# Altium integrated library Infineon RF & Wireless Control.IntLib: 329 symbols (part 4 of 11)
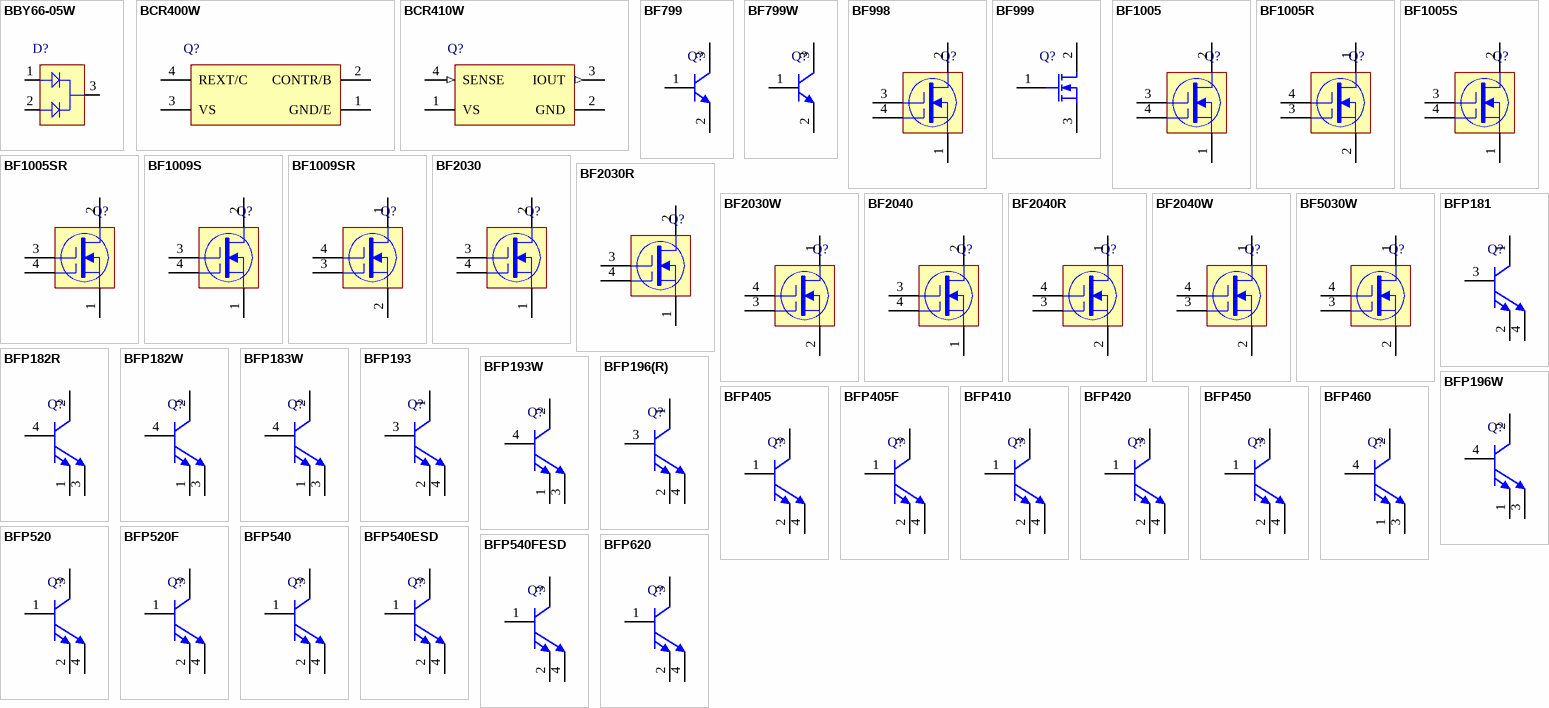
[diagram p12: symbols BBY66-05W to BFP620]

## BCR400W
designator Q?
Active Bias Controller, SOT343, Green; Manufacturer: Infineon; PartNumber: BCR400W; Green: yes; ID: 10 mA; Ptot (max): 330 mW; Vdrop (typ): 0.65 V; VS (max): 18 V; VS (min): 1.8 V; DatasheetVersion: ########; PackageReference: SOT343; PackageDescription: 4-Pin Small Outline Transistor Package, 1.25 x 2 mm Body; Halogen-free: yes; Mounting Technology: Surface Mount; ComponentLink1Description: Manufacturer URL; ComponentLink1URL: http://www.infineon.com/; ComponentLink2Description: Datasheet; ComponentLink2URL: http://www.infineon.com/dgdl/bcr400w.pdf?folderId=db3a30431400ef68011407aa42770183&fileId=db3a30431400ef68011407e93d8601a1&location=en.Products.RF.RF_Transistors_.Active_Bias_Controllers_for_RF_Transistors.DATASHEET.bcr400w.pdf; ComponentLink3Description: Package Specification; ComponentLink3URL: http://www.infineon.com/dgdl/SOT343-Package_Overview.pdf?folderId=db3a30431936bc4b0119535155343cba&fileId=db3a30431936bc4b0119535a9f393cd3
footprint INF-SOT343_V (SOT343, 4-Leads, Body 2x1.25 mm)
pins: 1 GND/E (power), 2 CONTR/B, 3 VS (power), 4 REXT/C

## BCR410W
designator Q?
Active Bias Controller, SOT343, Green; Manufacturer: Infineon; PartNumber: BCR410W; Green: yes; ID: 0.5 mA; Ptot (max): 100 mW; Vdrop (typ): 0.11 V; VS (max): 18 V; VS (min): 1.8 V; DatasheetVersion: ########; PackageReference: SOT343; PackageDescription: 4-Pin Small Outline Transistor Package, 1.25 x 2 mm Body; Supplier 1: Mouser; Supplier Part Number 1: N/A; Halogen-free: yes; Mounting Technology: Surface Mount; ComponentLink1Description: Manufacturer URL; ComponentLink1URL: http://www.infineon.com/; ComponentLink2Description: Datasheet; ComponentLink2URL: http://www.infineon.com/dgdl/bcr410w.pdf?folderId=db3a30431400ef68011407aa42770183&fileId=db3a30431400ef68011407f7356301a5&location=en.Products.RF.RF_Transistors_.Active_Bias_Controllers_for_RF_Transistors.DATASHEET.bcr410w.pdf; ComponentLink3Description: Package Specification; ComponentLink3URL: http://www.infineon.com/dgdl/SOT343-Package_Overview.pdf?folderId=db3a30431936bc4b0119535155343cba&fileId=db3a30431936bc4b0119535a9f393cd3
footprint INF-SOT343_V (SOT343, 4-Leads, Body 2x1.25 mm)
pins: 1 VS (power), 2 GND (power), 3 IOUT (out), 4 SENSE (in)

## BF799
designator Q?
NPN Silicon RF Transistor, 20 V VCEO, 35 mA IC, SOT23, Green; Manufacturer: Infineon; PartNumber: BF799; Green: yes; Group: For low frequencies, e.g. VHF/UHF; IC (max): 35 mA; NFmin (typ): 3 dB; Ptot (max): 280 mW; VCEO (max): 20 V; DatasheetVersion: Sep-2011; PackageReference: SOT23; PackageDescription: 3-Pin Small Outline Transistor Package, 1.3 x 2.9 mm Body, 0.95 mm Pitch; Supplier 1: Mouser; Supplier Part Number 1: N/A; Mounting Technology: Surface Mount; ComponentLink1Description: Manufacturer URL; ComponentLink1URL: http://www.infineon.com/; ComponentLink2Description: Datasheet; ComponentLink2URL: http://www.infineon.com/dgdl/bf799.pdf?folderId=db3a30431400ef68011425b1354605c1&fileId=db3a30431400ef68011425e83da705d9&location=en.Products.RF.RF_Transistors_.High_Linearity_Si-_and_SiGe_C-Transistors_for_use_up_to_6_GHz.DATASHEET.bf799.pdf; ComponentLink3Description: Package Specification; ComponentLink3URL: http://www.infineon.com/dgdl/SOT23-Package_Overview.pdf?folderId=db3a30431936bc4b0119532290053c66&fileId=db3a30431936bc4b0119533468123c85
footprint INF-SOT23_N (SOT23, 3-Leads, Body 2.9x1.3 mm, Pitch 0.95 mm, IPC Medium Density)
footprint INF-SOT23_L (SOT23, 3-Leads, Body 2.9x1.3 mm, Pitch 0.95 mm, IPC High Density)
footprint INF-SOT23_M (SOT23, 3-Leads, Body 2.9x1.3 mm, Pitch 0.95 mm, IPC Low Density)
pins: 1 B, 2 E, 3 C

## BF799W
designator Q?
NPN Silicon RF Transistor, 20 V VCEO, 35 mA IC, SOT323, Green; Manufacturer: Infineon; PartNumber: BF799W; Green: yes; Group: For low frequencies, e.g. VHF/UHF; IC (max): 35 mA; NFmin (typ): 3 dB; Ptot (max): 280mW; VCEO (max): 20 V; DatasheetVersion: Sep-2011; PackageReference: SOT323; PackageDescription: 3-Pin Small Outline Transistor Package, 1.25 x 2 mm Body, 0.65 mm Pitch; Supplier 1: Mouser; Supplier Part Number 1: N/A; Halogen-free: yes; Mounting Technology: Surface Mount; ComponentLink1Description: Manufacturer URL; ComponentLink1URL: http://www.infineon.com/; ComponentLink2Description: Datasheet; ComponentLink2URL: http://www.infineon.com/dgdl/bf799w.pdf?folderId=db3a30431400ef68011425b1354605c1&fileId=db3a30431400ef68011425ebb43905de&location=en.Products.RF.RF_Transistors_.High_Linearity_Si-_and_SiGe_C-Transistors_for_use_up_to_6_GHz.DATASHEET.bf799w.pdf; ComponentLink3Description: Package Specification; ComponentLink3URL: http://www.infineon.com/dgdl/SOT323-Package_Overview.pdf?folderId=db3a30431936bc4b0119533e1dcb3c92&fileId=db3a30431936bc4b011953495f283cb1
footprint INF-SOT323_N (SOT23, 3-Leads, Body 2x1.25 mm, Pitch 0.65 mm, IPC Medium Density)
footprint INF-SOT323_L (SOT23, 3-Leads, Body 2x1.25 mm, Pitch 0.65 mm, IPC High Density)
footprint INF-SOT323_M (SOT23, 3-Leads, Body 2x1.25 mm, Pitch 0.65 mm, IPC Low Density)
pins: 1 B, 2 E, 3 C

## BF998
designator Q?
Silicon N-Channel MOSFET Tetrode, 30 mA ID, 20 dB Gp, SOT143-4-1, Green; Manufacturer: Infineon; PartNumber: BF998; F (typ): 1.8 dB; gfs (typ): 24 mS; Gp (typ): 20 dB; Green: yes; ID (max): 30 mA; Ptot (max): 200 mW; DatasheetVersion: Apr-2007; PackageReference: SOT143-4-1; PackageDescription: 4-Pin Small Outline Transistor Package, 1.3 x 2.9 mm Body; Mounting Technology: Surface Mount; ComponentLink1Description: Manufacturer URL; ComponentLink1URL: http://www.infineon.com/; ComponentLink2Description: Datasheet; ComponentLink2URL: http://www.infineon.com/dgdl/bf998series.pdf?folderId=db3a30431441fb5d0114936599851041&fileId=db3a30431441fb5d011493688fd31042&location=en.Products.RF.RF_MOSFET.Single_Non_Biased.DATASHEET.bf998series.pdf; ComponentLink3Description: Package Specification; ComponentLink3URL: http://www.infineon.com/dgdl/SOT143-Package_Overview.pdf?folderId=db3a30431936bc4b011952ce8b1b3bed&fileId=db3a30431936bc4b011952df42203c0c
footprint INF-SOT143-4-1_V (SOT143, 4-Leads, Body 2.9x1.3 mm)
pins: 1 S, 2 D, 3 G2, 4 G1

## BF999
designator Q?
Silicon N-Channel MOSFET Triode, 30 mA ID, 25 dB Gp, SOT23, Green; Manufacturer: Infineon; PartNumber: BF999; F (typ): 1 dB; gfs (typ): 16 mS; Gp (typ): 25 dB; Green: yes; ID (max): 30 mA; Ptot (max): 200 mW; DatasheetVersion: Apr-2007; PackageReference: SOT23; PackageDescription: 3-Pin Small Outline Transistor Package, 1.3 x 2.9 mm Body, 0.95 mm Pitch; Supplier 1: Mouser; Supplier Part Number 1: N/A; Mounting Technology: Surface Mount; ComponentLink1Description: Manufacturer URL; ComponentLink1URL: http://www.infineon.com/; ComponentLink2Description: Datasheet; ComponentLink2URL: http://www.infineon.com/dgdl/bf999.pdf?folderId=db3a30431441fb5d0114936599851041&fileId=db3a30431441fb5d0114936ed6171043&location=en.Products.RF.RF_MOSFET.Single_Non_Biased.DATASHEET.bf999.pdf; ComponentLink3Description: Package Specification; ComponentLink3URL: http://www.infineon.com/dgdl/SOT23-Package_Overview.pdf?folderId=db3a30431936bc4b0119532290053c66&fileId=db3a30431936bc4b0119533468123c85
footprint INF-SOT23_N (SOT23, 3-Leads, Body 2.9x1.3 mm, Pitch 0.95 mm, IPC Medium Density)
footprint INF-SOT23_L (SOT23, 3-Leads, Body 2.9x1.3 mm, Pitch 0.95 mm, IPC High Density)
footprint INF-SOT23_M (SOT23, 3-Leads, Body 2.9x1.3 mm, Pitch 0.95 mm, IPC Low Density)
pins: 1 G, 2 D, 3 S

## BF1005
designator Q?
Silicon N-Channel MOSFET Tetrode, 25 mA ID, 19 dB Gp, SOT143, Green; Manufacturer: Infineon; PartNumber: BF1005; F (typ): 1.6 dB; gfs (typ): 24 mS; Gp (typ): 19 dB; Green: yes; ID (max): 25 mA; Ptot (max): 200 mW; DatasheetVersion: Apr-2007; PackageReference: SOT143-4-1; PackageDescription: 4-Pin Small Outline Transistor Package, 1.3 x 2.9 mm Body; Supplier 1: Mouser; Supplier Part Number 1: N/A; Mounting Technology: Surface Mount; ComponentLink1Description: Manufacturer URL; ComponentLink1URL: http://www.infineon.com/; ComponentLink2Description: Datasheet; ComponentLink2URL: http://www.infineon.com/dgdl/bf1005series.pdf?folderId=db3a304313b8b5a60113d40a85920405&fileId=db3a30431441fb5d011493122e46102c&location=en.Products.RF.RF_MOSFET.Single_Full_Biased.DATASHEET.bf1005series.pdf; ComponentLink3Description: Package Specification; ComponentLink3URL: http://www.infineon.com/dgdl/SOT143-Package_Overview.pdf?folderId=db3a30431936bc4b011952ce8b1b3bed&fileId=db3a30431936bc4b011952df42203c0c
footprint INF-SOT143-4-1_V (SOT143, 4-Leads, Body 2.9x1.3 mm)
pins: 1 S, 2 D, 3 G2, 4 G1

## BF1005R
designator Q?
Silicon N-Channel MOSFET Tetrode, 25 mA ID, 19 dB Gp, SOT143R, Green; Manufacturer: Infineon; PartNumber: BF1005R; F (typ): 1.6 dB; gfs (typ): 24 mS; Gp (typ): 19 dB; Green: yes; ID (max): 25 mA; Ptot (max): 200 mW; DatasheetVersion: Apr-2007; PackageReference: SOT143R; PackageDescription: 4-Pin Small Outline Transistor Package, 1.3 x 2.9 mm Body; Supplier 1: Mouser; Supplier Part Number 1: N/A; Mounting Technology: Surface Mount; ComponentLink1Description: Manufacturer URL; ComponentLink1URL: http://www.infineon.com/; ComponentLink2Description: Datasheet; ComponentLink2URL: http://www.infineon.com/dgdl/bf1005series.pdf?folderId=db3a304313b8b5a60113d40a85920405&fileId=db3a30431441fb5d011493122e46102c&location=en.Products.RF.RF_MOSFET.Single_Full_Biased.DATASHEET.bf1005series.pdf; ComponentLink3Description: Package Specification; ComponentLink3URL: http://www.infineon.com/dgdl/SOT143R-Package_Overview.pdf?folderId=db3a30431936bc4b011952e85fd43c15&fileId=db3a30431936bc4b011952f98add3c34
footprint INF-SOT143R_V (SOT143, 4-Leads, Body 2.9x1.3 mm)
pins: 1 D, 2 S, 3 G1, 4 G2

## BF1005S
designator Q?
Silicon N-Channel MOSFET Tetrode, 25 mA ID, 22 dB Gp, SOT143, Green; Manufacturer: Infineon; PartNumber: BF1005S; F (typ): 1.6 dB; gfs (typ): 30 mS; Gp (typ): 22 dB; Green: yes; ID (max): 25 mA; Ptot (max): 200 mW; DatasheetVersion: Apr-2007; PackageReference: SOT143-4-1; PackageDescription: 4-Pin Small Outline Transistor Package, 1.3 x 2.9 mm Body; Supplier 1: Mouser; Supplier Part Number 1: N/A; Mounting Technology: Surface Mount; ComponentLink1Description: Manufacturer URL; ComponentLink1URL: http://www.infineon.com/; ComponentLink2Description: Datasheet; ComponentLink2URL: http://www.infineon.com/dgdl/bf1005sseries.pdf?folderId=db3a304313b8b5a60113d40a85920405&fileId=db3a30431441fb5d01149313d067102d&location=en.Products.RF.RF_MOSFET.Single_Full_Biased.DATASHEET.bf1005sseries.pdf; ComponentLink3Description: Package Specification; ComponentLink3URL: http://www.infineon.com/dgdl/SOT143-Package_Overview.pdf?folderId=db3a30431936bc4b011952ce8b1b3bed&fileId=db3a30431936bc4b011952df42203c0c
footprint INF-SOT143-4-1_V (SOT143, 4-Leads, Body 2.9x1.3 mm)
pins: 1 S, 2 D, 3 G2, 4 G1

## BF1005SR
designator Q?
Silicon N-Channel MOSFET Tetrode, SOT143R, Green; Manufacturer: Infineon; PartNumber: BF1005SR; Green: TRUE; PackageReference: SOT143R; PackageDescription: 4-Pin Small Outline Transistor Package, 1.3 x 2.9 mm Body; Supplier 1: Mouser; Supplier Part Number 1: N/A; Halogen-free: FALSE; Mounting Technology: Surface Mount; ComponentLink1Description: Manufacturer URL; ComponentLink1URL: http://www.infineon.com/; ComponentLink2Description: Datasheet; ComponentLink2URL: http://www.infineon.com/dgdl/bf1005sseries.pdf?folderId=db3a304313b8b5a60113d40a85920405&fileId=db3a30431441fb5d01149313d067102d&location=en.Products.RF.RF_MOSFET.Single_Full_Biased.DATASHEET.bf1005sseries.pdf; ComponentLink3Description: Package Specification; ComponentLink3URL: http://www.infineon.com/dgdl/SOT143R-Package_Overview.pdf?folderId=db3a30431936bc4b011952e85fd43c15&fileId=db3a30431936bc4b011952f98add3c34
footprint INF-SOT143R_V (SOT143, 4-Leads, Body 2.9x1.3 mm)
pins: 1 D, 2 S, 3 G1, 4 G2

## BF1009S
designator Q?
Silicon N-Channel MOSFET Tetrode, 25 mA ID, 22 dB Gp, SOT143, Green; Manufacturer: Infineon; PartNumber: BF1009S; F (typ): 1.4 dB; gfs (typ): 30 mS; Gp (typ): 22 dB; Green: yes; ID (max): 25 mA; Ptot (max): 200 mW; DatasheetVersion: Apr-2007; PackageReference: SOT143-4-1; PackageDescription: 4-Pin Small Outline Transistor Package, 1.3 x 2.9 mm Body; Supplier 1: Mouser; Supplier Part Number 1: N/A; Mounting Technology: Surface Mount; ComponentLink1Description: Manufacturer URL; ComponentLink1URL: http://www.infineon.com/; ComponentLink2Description: Datasheet; ComponentLink2URL: http://www.infineon.com/dgdl/bf1009sseries.pdf?folderId=db3a304313b8b5a60113d40a85920405&fileId=db3a30431441fb5d011492f004f9102b&location=en.Products.RF.RF_MOSFET.Single_Full_Biased.DATASHEET.bf1009sseries.pdf; ComponentLink3Description: Package Specification; ComponentLink3URL: http://www.infineon.com/dgdl/SOT143-Package_Overview.pdf?folderId=db3a30431936bc4b011952ce8b1b3bed&fileId=db3a30431936bc4b011952df42203c0c
footprint INF-SOT143-4-1_V (SOT143, 4-Leads, Body 2.9x1.3 mm)
pins: 1 S, 2 D, 3 G2, 4 G1

## BF1009SR
designator Q?
Silicon N-Channel MOSFET Tetrode, 25 mA ID, 22 dB Gp, SOT143R, Green; Manufacturer: Infineon; PartNumber: BF1009SR; F (typ): 1.4 dB; gfs (typ): 30 mS; Gp (typ): 22 dB; Green: yes; ID (max): 25 mA; Ptot (max): 200 mW; DatasheetVersion: Apr-2007; PackageReference: SOT143R; PackageDescription: 4-Pin Small Outline Transistor Package, 1.3 x 2.9 mm Body; Supplier 1: Mouser; Supplier Part Number 1: N/A; Mounting Technology: Surface Mount; ComponentLink1Description: Manufacturer URL; ComponentLink1URL: http://www.infineon.com/; ComponentLink2Description: Datasheet; ComponentLink2URL: http://www.infineon.com/dgdl/bf1009sseries.pdf?folderId=db3a304313b8b5a60113d40a85920405&fileId=db3a30431441fb5d011492f004f9102b&location=en.Products.RF.RF_MOSFET.Single_Full_Biased.DATASHEET.bf1009sseries.pdf; ComponentLink3Description: Package Specification; ComponentLink3URL: http://www.infineon.com/dgdl/SOT143R-Package_Overview.pdf?folderId=db3a30431936bc4b011952e85fd43c15&fileId=db3a30431936bc4b011952f98add3c34
footprint INF-SOT143R_V (SOT143, 4-Leads, Body 2.9x1.3 mm)
pins: 1 D, 2 S, 3 G1, 4 G2

## BF2030
designator Q?
Silicon N-Channel MOSFET Tetrode, 40 mA ID, 23 dB Gp, SOT143-4-1, Green; Manufacturer: Infineon; PartNumber: BF2030; F (typ): 1.5 dB; gfs (typ): 31 mS; Gp (typ): 23 dB; Green: yes; ID (max): 40 mA; Ptot (max): 200 mW; DatasheetVersion: Apr-2007; PackageReference: SOT143-4-1; PackageDescription: 4-Pin Small Outline Transistor Package, 1.3 x 2.9 mm Body; Supplier 1: Mouser; Supplier Part Number 1: N/A; Mounting Technology: Surface Mount; ComponentLink1Description: Manufacturer URL; ComponentLink1URL: http://www.infineon.com/; ComponentLink2Description: Datasheet; ComponentLink2URL: http://www.infineon.com/dgdl/bf2030series.pdf?folderId=db3a30431441fb5d0114ab95022d1351&fileId=db3a30431441fb5d0114ab9599a61352&location=en.Products.RF.RF_MOSFET.Single_Semi_Biased.DATASHEET.bf2030series.pdf; ComponentLink3Description: Package Specification; ComponentLink3URL: http://www.infineon.com/dgdl/SOT143-Package_Overview.pdf?folderId=db3a30431936bc4b011952ce8b1b3bed&fileId=db3a30431936bc4b011952df42203c0c
footprint INF-SOT143-4-1_V (SOT143, 4-Leads, Body 2.9x1.3 mm)
pins: 1 S, 2 D, 3 G2, 4 G1

## BF2030R
designator Q?
Silicon N-Channel MOSFET Tetrode, SOT143R, Green; Manufacturer: Infineon; PartNumber: BF2030R; Green: TRUE; PackageReference: SOT143R; PackageDescription: 4-Pin Small Outline Transistor Package, 1.3 x 2.9 mm Body; Supplier 1: Mouser; Supplier Part Number 1: N/A; Halogen-free: FALSE; Mounting Technology: Surface Mount; ComponentLink1Description: Manufacturer URL; ComponentLink1URL: http://www.infineon.com/; ComponentLink2Description: Datasheet; ComponentLink2URL: http://www.infineon.com/dgdl/bf2030series.pdf?folderId=db3a30431441fb5d0114ab95022d1351&fileId=db3a30431441fb5d0114ab9599a61352&location=en.Products.RF.RF_MOSFET.Single_Semi_Biased.DATASHEET.bf2030series.pdf; ComponentLink3Description: Package Specification; ComponentLink3URL: http://www.infineon.com/dgdl/SOT143R-Package_Overview.pdf?folderId=db3a30431936bc4b011952e85fd43c15&fileId=db3a30431936bc4b011952f98add3c34
footprint INF-SOT143R_V (SOT143, 4-Leads, Body 2.9x1.3 mm)
pins: 1 D, 2 S, 3 G1, 4 G2

## BF2030W
designator Q?
Silicon N-Channel MOSFET Tetrode, 40 mA ID, 23 dB Gp, SOT343, Green; Manufacturer: Infineon; PartNumber: BF2030W; F (typ): 1.5 dB; gfs (typ): 31 mS; Gp (typ): 23 dB; Green: yes; ID (max): 40 mA; Ptot (max): 200 mW; DatasheetVersion: Apr-2007; PackageReference: SOT343; PackageDescription: 4-Pin Small Outline Transistor Package, 1.25 x 2 mm Body; Supplier 1: Mouser; Supplier Part Number 1: N/A; Halogen-free: yes; Mounting Technology: Surface Mount; ComponentLink1Description: Manufacturer URL; ComponentLink1URL: http://www.infineon.com/; ComponentLink2Description: Datasheet; ComponentLink2URL: http://www.infineon.com/dgdl/bf2030series.pdf?folderId=db3a30431441fb5d0114ab95022d1351&fileId=db3a30431441fb5d0114ab9599a61352&location=en.Products.RF.RF_MOSFET.Single_Semi_Biased.DATASHEET.bf2030series.pdf; ComponentLink3Description: Package Specification; ComponentLink3URL: http://www.infineon.com/dgdl/SOT343-Package_Overview.pdf?folderId=db3a30431936bc4b0119535155343cba&fileId=db3a30431936bc4b0119535a9f393cd3
footprint INF-SOT343_V (SOT343, 4-Leads, Body 2x1.25 mm)
pins: 1 D, 2 S, 3 G1, 4 G2

## BF2040
designator Q?
Silicon N-Channel MOSFET Tetrode, 40 mA ID, 23 dB Gp, SOT143-4-1, Green; Manufacturer: Infineon; PartNumber: BF2040; F (typ): 1.6 dB; gfs (typ): 42 mS; Gp (typ): 23 dB; Green: yes; ID (max): 40 mA; Ptot (max): 200 mW; DatasheetVersion: Jun-2007; PackageReference: SOT143-4-1; PackageDescription: 4-Pin Small Outline Transistor Package, 1.3 x 2.9 mm Body; Supplier 1: Mouser; Supplier Part Number 1: N/A; Mounting Technology: Surface Mount; ComponentLink1Description: Manufacturer URL; ComponentLink1URL: http://www.infineon.com/; ComponentLink2Description: Datasheet; ComponentLink2URL: http://www.infineon.com/dgdl/bf2040series.pdf?folderId=db3a30431441fb5d0114ab95022d1351&fileId=db3a30431441fb5d0114abbae832137f&location=en.Products.RF.RF_MOSFET.Single_Semi_Biased.DATASHEET.bf2040series.pdf; ComponentLink3Description: Package Specification; ComponentLink3URL: http://www.infineon.com/dgdl/SOT143-Package_Overview.pdf?folderId=db3a30431936bc4b011952ce8b1b3bed&fileId=db3a30431936bc4b011952df42203c0c
footprint INF-SOT143-4-1_V (SOT143, 4-Leads, Body 2.9x1.3 mm)
pins: 1 S, 2 D, 3 G2, 4 G1

## BF2040R
designator Q?
Silicon N-Channel MOSFET Tetrode, 40 mA ID, 23 dB Gp, SOT143R, Green; Manufacturer: Infineon; PartNumber: BF2040R; F (typ): 1.6 dB; gfs (typ): 42 mS; Gp (typ): 23 dB; Green: yes; ID (max): 40 mA; Ptot (max): 200 mW; DatasheetVersion: Jun-2007; PackageReference: SOT143R; PackageDescription: 4-Pin Small Outline Transistor Package, 1.3 x 2.9 mm Body; Supplier 1: Mouser; Supplier Part Number 1: N/A; Mounting Technology: Surface Mount; ComponentLink1Description: Manufacturer URL; ComponentLink1URL: http://www.infineon.com/; ComponentLink2Description: Datasheet; ComponentLink2URL: http://www.infineon.com/dgdl/bf2040series.pdf?folderId=db3a30431441fb5d0114ab95022d1351&fileId=db3a30431441fb5d0114abbae832137f&location=en.Products.RF.RF_MOSFET.Single_Semi_Biased.DATASHEET.bf2040series.pdf; ComponentLink3Description: Package Specification; ComponentLink3URL: http://www.infineon.com/dgdl/SOT143R-Package_Overview.pdf?folderId=db3a30431936bc4b011952e85fd43c15&fileId=db3a30431936bc4b011952f98add3c34
footprint INF-SOT143R_V (SOT143, 4-Leads, Body 2.9x1.3 mm)
pins: 1 D, 2 S, 3 G1, 4 G2

## BF2040W
designator Q?
Silicon N-Channel MOSFET Tetrode, 40 mA ID, 23 dB Gp, SOT343, Green; Manufacturer: Infineon; PartNumber: BF2040W; F (typ): 1.6 dB; gfs (typ): 42 mS; Gp (typ): 23 dB; Green: yes; ID (max): 40 mA; Ptot (max): 200 mW; DatasheetVersion: Jun-2007; PackageReference: SOT343; PackageDescription: 4-Pin Small Outline Transistor Package, 1.25 x 2 mm Body; Supplier 1: Mouser; Supplier Part Number 1: N/A; Halogen-free: yes; Mounting Technology: Surface Mount; ComponentLink1Description: Manufacturer URL; ComponentLink1URL: http://www.infineon.com/; ComponentLink2Description: Datasheet; ComponentLink2URL: http://www.infineon.com/dgdl/bf2040series.pdf?folderId=db3a30431441fb5d0114ab95022d1351&fileId=db3a30431441fb5d0114abbae832137f&location=en.Products.RF.RF_MOSFET.Single_Semi_Biased.DATASHEET.bf2040series.pdf; ComponentLink3Description: Package Specification; ComponentLink3URL: http://www.infineon.com/dgdl/SOT343-Package_Overview.pdf?folderId=db3a30431936bc4b0119535155343cba&fileId=db3a30431936bc4b0119535a9f393cd3
footprint INF-SOT343_V (SOT343, 4-Leads, Body 2x1.25 mm)
pins: 1 D, 2 S, 3 G1, 4 G2

## BF5030W
designator Q?
Silicon N-Channel MOSFET Tetrode, 25 mA ID, 24 dB Gp, SOT343, Green; Manufacturer: Infineon; PartNumber: BF5030W; F (typ): 1.3 dB; gfs (typ): 41 mS; Gp (typ): 24 dB; Green: yes; ID (max): 25 mA; Ptot (max): 200 mW; DatasheetVersion: ########; PackageReference: SOT343; PackageDescription: 4-Pin Small Outline Transistor Package, 1.25 x 2 mm Body; Supplier 1: Mouser; Supplier Part Number 1: N/A; Halogen-free: yes; Mounting Technology: Surface Mount; ComponentLink1Description: Manufacturer URL; ComponentLink1URL: http://www.infineon.com/; ComponentLink2Description: Datasheet; ComponentLink2URL: http://www.infineon.com/dgdl/bf5030series.pdf?folderId=db3a30431f848401011fcbf2ab4c04c4&fileId=db3a3043243b5f17012475eb963b4e6c&location=en.Products.RF.RF_MOSFET.Single_Semi_Biased.DATASHEET.bf5030series.pdf; ComponentLink3Description: Package Specification; ComponentLink3URL: http://www.infineon.com/dgdl/SOT343-Package_Overview.pdf?folderId=db3a30431936bc4b0119535155343cba&fileId=db3a30431936bc4b0119535a9f393cd3
footprint INF-SOT343_V (SOT343, 4-Leads, Body 2x1.25 mm)
pins: 1 D, 2 S, 3 G1, 4 G2

## BFP181
designator Q?
NPN Silicon RF Transistor, 12 V VCEO, 20 mA IC, 21 dB Gmax, SOT143-4-1, Green; Manufacturer: Infineon; PartNumber: BFP181; Gmax (typ): 21 dB; Green: yes; Group: For low frequencies e.g. VHF/UHF; IC (max): 20 mA; NFmin (typ): 0.9 dB; Ptot (max): 175.0mW; VCEO (max): 12 V; DatasheetVersion: Mar-2007; PackageReference: SOT143-4-1; PackageDescription: 4-Pin Small Outline Transistor Package, 1.3 x 2.9 mm Body; Supplier 1: Mouser; Supplier Part Number 1: N/A; Mounting Technology: Surface Mount; ComponentLink1Description: Manufacturer URL; ComponentLink1URL: http://www.infineon.com/; ComponentLink2Description: Datasheet; ComponentLink2URL: http://www.infineon.com/dgdl/bfp181.pdf?folderId=db3a30431400ef68011425b1354605c1&fileId=db3a30431400ef6801142665c77b0601&location=en.Products.RF.RF_Transistors_.Low_Noise_Si_Transistors_up_to_2_5_GHz.DATASHEET.bfp181.pdf; ComponentLink3Description: Package Specification; ComponentLink3URL: http://www.infineon.com/dgdl/SOT143-Package_Overview.pdf?folderId=db3a30431936bc4b011952ce8b1b3bed&fileId=db3a30431936bc4b011952df42203c0c
footprint INF-SOT143-4-1_V (SOT143, 4-Leads, Body 2.9x1.3 mm)
pins: 1 C, 2 E, 3 B, 4 E

## BFP182R
designator Q?
NPN Silicon RF Transistor, 12 V VCEO, 35 mA IC, 22 dB Gmax, SOT143-4-1, Green; Manufacturer: Infineon; PartNumber: BFP182R; Gmax (typ): 22 dB; Green: yes; Group: For low frequencies e.g. VHF/UHF; IC (max): 35 mA; NFmin (typ): 0.9 dB; Ptot (max): 250mW; VCEO (max): 12 V; DatasheetVersion: Apr-2007; PackageReference: SOT143-4-1; PackageDescription: 4-Pin Small Outline Transistor Package, 1.3 x 2.9 mm Body; Supplier 1: Mouser; Supplier Part Number 1: N/A; Mounting Technology: Surface Mount; ComponentLink1Description: Manufacturer URL; ComponentLink1URL: http://www.infineon.com/; ComponentLink2Description: Datasheet; ComponentLink2URL: http://www.infineon.com/dgdl/bfp182r.pdf?folderId=db3a30431400ef68011425b1354605c1&fileId=db3a30431400ef680114266cb9c9060a&location=en.Products.RF.RF_Transistors_.Low_Noise_Si_Transistors_up_to_2_5_GHz.DATASHEET.bfp182r.pdf; ComponentLink3Description: Package Specification; ComponentLink3URL: http://www.infineon.com/dgdl/SOT143-Package_Overview.pdf?folderId=db3a30431936bc4b011952ce8b1b3bed&fileId=db3a30431936bc4b011952df42203c0c
footprint INF-SOT143-4-1_V (SOT143, 4-Leads, Body 2.9x1.3 mm)
pins: 1 E, 2 C, 3 E, 4 B

## BFP182W
designator Q?
NPN Silicon RF Transistor, 12 V VCEO, 35 mA IC, 22 dB Gmax, SOT343, Green; Manufacturer: Infineon; PartNumber: BFP182W; Gmax (typ): 22 dB; Green: yes; Group: For low frequencies e.g. VHF/UHF; IC (max): 35 mA; NFmin (typ): 0.9 dB; Ptot (max): 250mW; VCEO (max): 12 V; DatasheetVersion: Apr-2007; PackageReference: SOT343; PackageDescription: 4-Pin Small Outline Transistor Package, 1.25 x 2 mm Body; Supplier 1: Mouser; Supplier Part Number 1: N/A; Halogen-free: yes; Mounting Technology: Surface Mount; ComponentLink1Description: Manufacturer URL; ComponentLink1URL: http://www.infineon.com/; ComponentLink2Description: Datasheet; ComponentLink2URL: http://www.infineon.com/dgdl/bfp182w.pdf?folderId=db3a30431400ef68011425b1354605c1&fileId=db3a30431400ef680114266e035c060b&location=en.Products.RF.RF_Transistors_.Low_Noise_Si_Transistors_up_to_2_5_GHz.DATASHEET.bfp182w.pdf; ComponentLink3Description: Package Specification; ComponentLink3URL: http://www.infineon.com/dgdl/SOT343-Package_Overview.pdf?folderId=db3a30431936bc4b0119535155343cba&fileId=db3a30431936bc4b0119535a9f393cd3
footprint INF-SOT343_V (SOT343, 4-Leads, Body 2x1.25 mm)
pins: 1 E, 2 C, 3 E, 4 B

## BFP183W
designator Q?
NPN Silicon RF Transistor, 12 V VCEO, 65 mA IC, 22 dB Gmax, SOT343, Green; Manufacturer: Infineon; PartNumber: BFP183W; Gmax (typ): 22 dB; Green: yes; Group: For low frequencies e.g. VHF/UHF; IC (max): 65 mA; NFmin (typ): 0.9 dB; Ptot (max): 450mW; VCEO (max): 12 V; DatasheetVersion: Apr-2007; PackageReference: SOT343; PackageDescription: 4-Pin Small Outline Transistor Package, 1.25 x 2 mm Body; Supplier 1: Mouser; Supplier Part Number 1: N/A; Halogen-free: yes; Mounting Technology: Surface Mount; ComponentLink1Description: Manufacturer URL; ComponentLink1URL: http://www.infineon.com/; ComponentLink2Description: Datasheet; ComponentLink2URL: http://www.infineon.com/dgdl/bfp183w.pdf?folderId=db3a30431400ef68011425b1354605c1&fileId=db3a30431400ef6801142672e8cd0613&location=en.Products.RF.RF_Transistors_.Low_Noise_Si_Transistors_up_to_2_5_GHz.DATASHEET.bfp183w.pdf; ComponentLink3Description: Package Specification; ComponentLink3URL: http://www.infineon.com/dgdl/SOT343-Package_Overview.pdf?folderId=db3a30431936bc4b0119535155343cba&fileId=db3a30431936bc4b0119535a9f393cd3
footprint INF-SOT343_V (SOT343, 4-Leads, Body 2x1.25 mm)
pins: 1 E, 2 C, 3 E, 4 B

## BFP193
designator Q?
NPN Silicon RF Transistor, 12 V VCEO, 80 mA IC, 18 dB Gmax, SOT143-4-1, Green; Manufacturer: Infineon; PartNumber: BFP193; Gmax (typ): 18 dB; Green: yes; Group: For low frequencies, e.g. VHF/UHF; IC (max): 80 mA; NFmin (typ): 1 dB; Ptot (max): 580.0 mW; VCEO (max): 12 V; DatasheetVersion: Aug-2012; PackageReference: SOT143-4-1; PackageDescription: 4-Pin Small Outline Transistor Package, 1.3 x 2.9 mm Body; Supplier 1: Mouser; Supplier Part Number 1: N/A; Mounting Technology: Surface Mount; ComponentLink1Description: Manufacturer URL; ComponentLink1URL: http://www.infineon.com/; ComponentLink2Description: Datasheet; ComponentLink2URL: http://www.infineon.com/dgdl/bfp193.pdf?folderId=db3a30431400ef68011425b1354605c1&fileId=db3a30431400ef6801142674fdc3061b&location=en.Products.RF.RF_Transistors_.High_Linearity_Si-_and_SiGe_C-Transistors_for_use_up_to_6_GHz.DATASHEET.bfp193.pdf; ComponentLink3Description: Package Specification; ComponentLink3URL: http://www.infineon.com/dgdl/SOT143-Package_Overview.pdf?folderId=db3a30431936bc4b011952ce8b1b3bed&fileId=db3a30431936bc4b011952df42203c0c
footprint INF-SOT143-4-1_V (SOT143, 4-Leads, Body 2.9x1.3 mm)
pins: 1 C, 2 E, 3 B, 4 E

## BFP193W
designator Q?
NPN Silicon RF Transistor, 12 V VCEO, 80 mA IC, 20.5 dB Gmax, SOT343, Green; Manufacturer: Infineon; PartNumber: BFP193W; Gmax (typ): 20.5 dB; Green: yes; Group: For low frequencies, e.g. VHF/UHF; IC (max): 80 mA; NFmin (typ): 1 dB; Ptot (max): 580.0 mW; VCEO (max): 12 V; DatasheetVersion: Aug-2012; PackageReference: SOT343; PackageDescription: 4-Pin Small Outline Transistor Package, 1.25 x 2 mm Body; Supplier 1: Mouser; Supplier Part Number 1: N/A; Supplier 2: Farnell; Supplier Part Number 2: 1214294RL; Halogen-free: yes; Mounting Technology: Surface Mount; ComponentLink1Description: Manufacturer URL; ComponentLink1URL: http://www.infineon.com/; ComponentLink2Description: Datasheet; ComponentLink2URL: http://www.infineon.com/dgdl/bfp193w.pdf?folderId=db3a30431400ef68011425b1354605c1&fileId=db3a30431400ef6801142678c81e061f&location=en.Products.RF.RF_Transistors_.High_Linearity_Si-_and_SiGe_C-Transistors_for_use_up_to_6_GHz.DATASHEET.bfp193w.pdf; ComponentLink3Description: Package Specification; ComponentLink3URL: http://www.infineon.com/dgdl/SOT343-Package_Overview.pdf?folderId=db3a30431936bc4b0119535155343cba&fileId=db3a30431936bc4b0119535a9f393cd3
footprint INF-SOT343_V (SOT343, 4-Leads, Body 2x1.25 mm)
pins: 1 E, 2 C, 3 E, 4 B

## BFP196(R)
designator Q?
NPN Silicon RF Transistor, 12 V VCEO, 150 mA IC, 16.5 dB Gmax, SOT143, Green; Manufacturer: Infineon; PartNumber: BFP196(R); Gmax (typ): 16.5 dB; Green: yes; Group: For low frequencies, e.g. VHF/UHF; IC (max): 150 mA; NFmin (typ): 1.3 dB; Ptot (max): 700mW; VCEO (max): 12 V; DatasheetVersion: Apr-2007; PackageReference: SOT143; PackageDescription: 4-Pin Small Outline Transistor Package, 1.3 x 2.9 mm Body; Mounting Technology: Surface Mount; ComponentLink1Description: Manufacturer URL; ComponentLink1URL: http://www.infineon.com/; ComponentLink2Description: Datasheet; ComponentLink2URL: http://www.infineon.com/dgdl/bfp196.pdf?folderId=db3a30431400ef68011425b1354605c1&fileId=db3a30431400ef680114267c0ec70624&location=en.Products.RF.RF_Transistors_.High_Linearity_Si-_and_SiGe_C-Transistors_for_use_up_to_6_GHz.DATASHEET.bfp196.pdf; ComponentLink3Description: Package Specification; ComponentLink3URL: http://www.infineon.com/dgdl/SOT143-Package_Overview.pdf?folderId=db3a30431936bc4b011952ce8b1b3bed&fileId=db3a30431936bc4b011952df42203c0c
footprint INF-SOT143_V (SOT143, 4-Leads, Body 2.9x1.3 mm)
pins: 1 C, 2 E, 3 B, 4 E

## BFP196W
designator Q?
NPN Silicon RF Transistor, 12 V VCEO, 150 mA IC, 19 dB Gmax, SOT343, Green; Manufacturer: Infineon; PartNumber: BFP196W; Gmax (typ): 19 dB; Green: yes; Group: For low frequencies, e.g. VHF/UHF; IC (max): 150 mA; NFmin (typ): 1.3 dB; Ptot (max): 700 mW; VCEO (max): 12 V; DatasheetVersion: Apr-2007; PackageReference: SOT343; PackageDescription: 4-Pin Small Outline Transistor Package, 1.25 x 2 mm Body; Supplier 1: Mouser; Supplier Part Number 1: N/A; Halogen-free: yes; Mounting Technology: Surface Mount; ComponentLink1Description: Manufacturer URL; ComponentLink1URL: http://www.infineon.com/; ComponentLink2Description: Datasheet; ComponentLink2URL: http://www.infineon.com/dgdl/bfp196w.pdf?folderId=db3a30431400ef68011425b1354605c1&fileId=db3a30431400ef680114267ecec60628&location=en.Products.RF.RF_Transistors_.High_Linearity_Si-_and_SiGe_C-Transistors_for_use_up_to_6_GHz.DATASHEET.bfp196w.pdf; ComponentLink3Description: Package Specification; ComponentLink3URL: http://www.infineon.com/dgdl/SOT343-Package_Overview.pdf?folderId=db3a30431936bc4b0119535155343cba&fileId=db3a30431936bc4b0119535a9f393cd3
footprint INF-SOT343_V (SOT343, 4-Leads, Body 2x1.25 mm)
pins: 1 E, 2 C, 3 E, 4 B

## BFP405
designator Q?
NPN Silicon RF Transistor, 4.5 V VCEO, 12 mA IC, 23 dB Gmax, SOT343, Green; Manufacturer: Infineon; PartNumber: BFP405; Gmax (typ): 23 dB; Green: yes; IC (max): 12 mA; NFmin (typ): 1.25 dB; Ptot (max): 55.0mW; VCEO (max): 4.5 V; DatasheetVersion: Nov-2009; PackageReference: SOT343; PackageDescription: 4-Pin Small Outline Transistor Package, 1.25 x 2 mm Body; Supplier 1: Mouser; Supplier Part Number 1: N/A; Supplier 2: Newark; Supplier Part Number 2: 34M5234; Supplier 3: Farnell; Supplier Part Number 3: 1056518RL; Supplier 4: Farnell; Supplier Part Number 4: 1056518; Halogen-free: yes; Mounting Technology: Surface Mount; ComponentLink1Description: Manufacturer URL; ComponentLink1URL: http://www.infineon.com/; ComponentLink2Description: Datasheet; ComponentLink2URL: http://www.infineon.com/dgdl/bfp405.pdf?folderId=db3a30431400ef68011425b291f205c5&fileId=db3a30431400ef68011427753c330778&location=en.Products.RF.RF_Transistors_.Low_Noise_Si_Transistors_up_to_5_GHz_.DATASHEET.bfp405.pdf; ComponentLink3Description: Package Specification; ComponentLink3URL: http://www.infineon.com/dgdl/SOT343-Package_Overview.pdf?folderId=db3a30431936bc4b0119535155343cba&fileId=db3a30431936bc4b0119535a9f393cd3
footprint INF-SOT343_V (SOT343, 4-Leads, Body 2x1.25 mm)
pins: 1 B, 2 E, 3 C, 4 E

## BFP405F
designator Q?
NPN Silicon RF Transistor, TSFP-4-1, Green; Manufacturer: Infineon; PartNumber: BFP405F; Green: TRUE; VCEO (max): 4.5 V; PackageReference: TSFP-4-1; PackageDescription: 4-Pin Thin Small Flat Package, 0.8 x 1.4 mm Body, 0.5 mm Pitch; Supplier 1: Mouser; Supplier Part Number 1: N/A; Halogen-free: TRUE; Mounting Technology: Surface Mount; ComponentLink1Description: Manufacturer URL; ComponentLink1URL: http://www.infineon.com/; ComponentLink2Description: Datasheet; ComponentLink2URL: http://www.infineon.com/dgdl/bfp405f.pdf?folderId=db3a30431400ef68011425b291f205c5&fileId=db3a30431400ef6801142770426c076c&location=en.Products.RF.RF_Transistors_.Low_Noise_Si_Transistors_up_to_5_GHz_.DATASHEET.bfp405f.pdf; ComponentLink3Description: Package Specification; ComponentLink3URL: http://www.infineon.com/dgdl/TSFP-4-1%2C-2-Package_Overview.pdf?folderId=db3a30431936bc4b011953b7d203683d&fileId=db3a30431936bc4b011953c249663734
footprint INF-TSFP-4-1_V (SOP-Flat, 4 Leads, Body 0.8x1.4 mm, Pitch 1 mm)
pins: 1 B, 2 E, 3 C, 4 E

## BFP410
designator Q?
NPN Silicon RF Transistor, 4.5 V VCEO, 40 mA IC, 21.5 dB Gmax, SOT343, Green; Manufacturer: Infineon; PartNumber: BFP410; Gmax (typ): 21.5 dB; Green: yes; IC (max): 40 mA; NFmin (typ): 1.2 dB; Ptot (max): 150 mW; VCEO (max): 4.5 V; DatasheetVersion: Apr-2010; PackageReference: SOT343; PackageDescription: 4-Pin Small Outline Transistor Package, 1.25 x 2 mm Body; Halogen-free: yes; Mounting Technology: Surface Mount; ComponentLink1Description: Manufacturer URL; ComponentLink1URL: http://www.infineon.com/; ComponentLink2Description: Datasheet; ComponentLink2URL: http://www.infineon.com/dgdl/BFP410.pdf?folderId=db3a30431400ef68011425b291f205c5&fileId=db3a304327b897500127f643897164b8&location=en.Products.RF.RF_Transistors_.Low_Noise_Si_Transistors_up_to_5_GHz_.DATASHEET.BFP410.pdf; ComponentLink3Description: Package Specification; ComponentLink3URL: http://www.infineon.com/dgdl/SOT343-Package_Overview.pdf?folderId=db3a30431936bc4b0119535155343cba&fileId=db3a30431936bc4b0119535a9f393cd3
footprint INF-SOT343_V (SOT343, 4-Leads, Body 2x1.25 mm)
pins: 1 B, 2 E, 3 C, 4 E

## BFP420
designator Q?
NPN Silicon RF Transistor, 4.5 V VCEO, 35 mA IC, 21 dB Gmax, SOT343, Green; Manufacturer: Infineon; PartNumber: BFP420; Gmax (typ): 21 dB; Green: yes; IC (max): 35 mA; NFmin (typ): 1.1 dB; Ptot (max): 160 mW; VCEO (max): 4.5 V; DatasheetVersion: Dec-2009; PackageReference: SOT343; PackageDescription: 4-Pin Small Outline Transistor Package, 1.25 x 2 mm Body; Supplier 1: Mouser; Supplier Part Number 1: N/A; Supplier 2: Newark; Supplier Part Number 2: 24M0741; Supplier 3: Farnell; Supplier Part Number 3: 1056519; Supplier 4: Farnell; Supplier Part Number 4: 1056519RL; Halogen-free: yes; Mounting Technology: Surface Mount; ComponentLink1Description: Manufacturer URL; ComponentLink1URL: http://www.infineon.com/; ComponentLink2Description: Datasheet; ComponentLink2URL: http://www.infineon.com/dgdl/bfp420.pdf?folderId=db3a30431400ef68011425b291f205c5&fileId=db3a30431400ef6801142769cd120763&location=en.Products.RF.RF_Transistors_.Low_Noise_Si_Transistors_up_to_5_GHz_.DATASHEET.bfp420.pdf; ComponentLink3Description: Package Specification; ComponentLink3URL: http://www.infineon.com/dgdl/SOT343-Package_Overview.pdf?folderId=db3a30431936bc4b0119535155343cba&fileId=db3a30431936bc4b0119535a9f393cd3
footprint INF-SOT343_V (SOT343, 4-Leads, Body 2x1.25 mm)
pins: 1 B, 2 E, 3 C, 4 E

## BFP450
designator Q?
High Linearity Low Noise Si NPN RF Transistor, 4.5 V VCEO, 100 mA IC, 15.5 dB Gmax, SOT343, Green; Manufacturer: Infineon; PartNumber: BFP450; Gmax (typ): 15.5 dB; Green: yes; Group: Si transistors with high gain up to 2.5 GHz; IC (max): 100 mA; NFmin (typ): 1.25 dB; Ptot (max): 450.0 mW; VCEO (max): 4.5 V; DatasheetVersion: Rev. 1.0; PackageReference: SOT343; PackageDescription: 4-Pin Small Outline Transistor Package, 1.25 x 2 mm Body; Supplier 1: Mouser; Supplier Part Number 1: N/A; Halogen-free: yes; Mounting Technology: Surface Mount; ComponentLink1Description: Manufacturer URL; ComponentLink1URL: http://www.infineon.com/; ComponentLink2Description: Datasheet; ComponentLink2URL: http://www.infineon.com/dgdl/bfp450.pdf?folderId=db3a30431400ef68011425b291f205c5&fileId=db3a30431400ef680114275d537d074b&location=en.Products.RF.RF_Transistors_.High_Linearity_Si-_and_SiGe_C-Transistors_for_use_up_to_6_GHz.DATASHEET.bfp450.pdf; ComponentLink3Description: Package Specification; ComponentLink3URL: http://www.infineon.com/dgdl/SOT343-Package_Overview.pdf?folderId=db3a30431936bc4b0119535155343cba&fileId=db3a30431936bc4b0119535a9f393cd3
footprint INF-SOT343_V (SOT343, 4-Leads, Body 2x1.25 mm)
pins: 1 B, 2 E, 3 C, 4 E

## BFP460
designator Q?
NPN Silicon RF Transistor, 4.5 V VCEO, 50 mA IC, 17.5 dB Gmax, SOT343, Green; Manufacturer: Infineon; PartNumber: BFP460; Gmax (typ): 17.5 dB; Green: yes; IC (max): 50 mA; NFmin (typ): 1.1 dB; Ptot (max): 200 mW; VCEO (max): 4.5 V; DatasheetVersion: ########; PackageReference: SOT343; PackageDescription: 4-Pin Small Outline Transistor Package, 1.25 x 2 mm Body; Supplier 1: Mouser; Supplier Part Number 1: N/A; Halogen-free: yes; Mounting Technology: Surface Mount; ComponentLink1Description: Manufacturer URL; ComponentLink1URL: http://www.infineon.com/; ComponentLink2Description: Datasheet; ComponentLink2URL: http://www.infineon.com/dgdl/bfp460.pdf?folderId=db3a30431400ef68011425b1354605c1&fileId=db3a30431400ef6801142682dcdb062f&location=en.Products.RF.RF_Transistors_.Low_Noise_Si_Transistors_up_to_5_GHz_.DATASHEET.bfp460.pdf; ComponentLink3Description: Package Specification; ComponentLink3URL: http://www.infineon.com/dgdl/SOT343-Package_Overview.pdf?folderId=db3a30431936bc4b0119535155343cba&fileId=db3a30431936bc4b0119535a9f393cd3
footprint INF-SOT343_V (SOT343, 4-Leads, Body 2x1.25 mm)
pins: 1 E, 2 C, 3 E, 4 B

## BFP520
designator Q?
NPN Silicon RF Transistor, 2.5 V VCEO, 40 mA IC, 23.5 dB Gmax, SOT343, Green; Manufacturer: Infineon; PartNumber: BFP520; Gmax (typ): 23.5 dB; Green: yes; IC (max): 40 mA; NFmin (typ): 0.95 dB; Ptot (max): 100 mW; VCEO (max): 2.5 V; DatasheetVersion: Aug-2010; PackageReference: SOT343; PackageDescription: 4-Pin Small Outline Transistor Package, 1.25 x 2 mm Body; Supplier 1: Mouser; Supplier Part Number 1: N/A; Halogen-free: yes; Mounting Technology: Surface Mount; ComponentLink1Description: Manufacturer URL; ComponentLink1URL: http://www.infineon.com/; ComponentLink2Description: Datasheet; ComponentLink2URL: http://www.infineon.com/dgdl/bfp520.pdf?folderId=db3a30431400ef68011425b291f205c5&fileId=db3a30431400ef680114275a86cd0745&location=en.Products.RF.RF_Transistors_.Low_Noise_Si_Transistors_up_to_5_GHz_.DATASHEET.bfp520.pdf; ComponentLink3Description: Package Specification; ComponentLink3URL: http://www.infineon.com/dgdl/SOT343-Package_Overview.pdf?folderId=db3a30431936bc4b0119535155343cba&fileId=db3a30431936bc4b0119535a9f393cd3
footprint INF-SOT343_V (SOT343, 4-Leads, Body 2x1.25 mm)
pins: 1 B, 2 E, 3 C, 4 E

## BFP520F
designator Q?
NPN Silicon RF Transistor, TSFP-4-1, Green; Manufacturer: Infineon; PartNumber: BFP520F; Green: TRUE; VCEO (max): 2.5 V; PackageReference: TSFP-4-1; PackageDescription: 4-Pin Thin Small Flat Package, 0.8 x 1.4 mm Body, 0.5 mm Pitch; Supplier 1: Mouser; Supplier Part Number 1: N/A; Halogen-free: TRUE; Mounting Technology: Surface Mount; ComponentLink1Description: Manufacturer URL; ComponentLink1URL: http://www.infineon.com/; ComponentLink2Description: Datasheet; ComponentLink2URL: http://www.infineon.com/dgdl/bfp520f.pdf?folderId=db3a30431400ef68011425b291f205c5&fileId=db3a30431400ef68011427599d290744&location=en.Products.RF.RF_Transistors_.Low_Noise_Si_Transistors_up_to_5_GHz_.DATASHEET.bfp520f.pdf; ComponentLink3Description: Package Specification; ComponentLink3URL: http://www.infineon.com/dgdl/TSFP-4-1%2C-2-Package_Overview.pdf?folderId=db3a30431936bc4b011953b7d203683d&fileId=db3a30431936bc4b011953c249663734
footprint INF-TSFP-4-1_V (SOP-Flat, 4 Leads, Body 0.8x1.4 mm, Pitch 1 mm)
pins: 1 B, 2 E, 3 C, 4 E

## BFP540
designator Q?
NPN Silicon RF Transistor, 4.5 V VCEO, 80 mA IC, 21.5 dB Gmax, SOT343, Green; Manufacturer: Infineon; PartNumber: BFP540; Gmax (typ): 21.5 dB; Green: yes; IC (max): 80 mA; NFmin (typ): 0.9 dB; Ptot (max): 250 mW; VCEO (max): 4.5 V; DatasheetVersion: Dec-2009; PackageReference: SOT343; PackageDescription: 4-Pin Small Outline Transistor Package, 1.25 x 2 mm Body; Supplier 1: Mouser; Supplier Part Number 1: N/A; Halogen-free: yes; Mounting Technology: Surface Mount; ComponentLink1Description: Manufacturer URL; ComponentLink1URL: http://www.infineon.com/; ComponentLink2Description: Datasheet; ComponentLink2URL: http://www.infineon.com/dgdl/bfp540.pdf?folderId=db3a30431400ef68011425b291f205c5&fileId=db3a30431400ef68011427557da7073a&location=en.Products.RF.RF_Transistors_.Low_Noise_Si_Transistors_up_to_5_GHz_.DATASHEET.bfp540.pdf; ComponentLink3Description: Package Specification; ComponentLink3URL: http://www.infineon.com/dgdl/SOT343-Package_Overview.pdf?folderId=db3a30431936bc4b0119535155343cba&fileId=db3a30431936bc4b0119535a9f393cd3
footprint INF-SOT343_V (SOT343, 4-Leads, Body 2x1.25 mm)
pins: 1 B, 2 E, 3 C, 4 E

## BFP540ESD
designator Q?
NPN Silicon RF Transistor, 4.5 V VCEO, 80 mA IC, 21.5 dB Gmax, SOT343, Green; Manufacturer: Infineon; PartNumber: BFP540ESD; Gmax (typ): 21.5 dB; Green: yes; IC (max): 80 mA; NFmin (typ): 0.9 dB; Ptot (max): 250 mW; VCEO (max): 4.5 V; DatasheetVersion: Dec-2009; PackageReference: SOT343; PackageDescription: 4-Pin Small Outline Transistor Package, 1.25 x 2 mm Body; Supplier 1: Mouser; Supplier Part Number 1: N/A; Halogen-free: yes; Mounting Technology: Surface Mount; ComponentLink1Description: Manufacturer URL; ComponentLink1URL: http://www.infineon.com/; ComponentLink2Description: Datasheet; ComponentLink2URL: http://www.infineon.com/dgdl/bfp540esd.pdf?folderId=db3a30431400ef68011425b291f205c5&fileId=db3a30431400ef6801142752de910734&location=en.Products.RF.RF_Transistors_.Low_Noise_Si_Transistors_up_to_5_GHz_.DATASHEET.bfp540esd.pdf; ComponentLink3Description: Package Specification; ComponentLink3URL: http://www.infineon.com/dgdl/SOT343-Package_Overview.pdf?folderId=db3a30431936bc4b0119535155343cba&fileId=db3a30431936bc4b0119535a9f393cd3
footprint INF-SOT343_V (SOT343, 4-Leads, Body 2x1.25 mm)
pins: 1 B, 2 E, 3 C, 4 E

## BFP540FESD
designator Q?
NPN Silicon RF Transistor, TSFP-4-1, Reel, Green; Manufacturer: Infineon; PartNumber: BFP540FESD; Green: TRUE; VCEO (max): 4.5 V; PackageReference: TSFP-4-1; PackageDescription: 4-Pin Thin Small Flat Package, 0.8 x 1.4 mm Body, 0.5 mm Pitch; Supplier 1: Mouser; Supplier Part Number 1: N/A; Halogen-free: TRUE; Mounting Technology: Surface Mount; ComponentLink1Description: Manufacturer URL; ComponentLink1URL: http://www.infineon.com/; ComponentLink2Description: Datasheet; ComponentLink2URL: http://www.infineon.com/dgdl/bfp540fesd.pdf?folderId=db3a30431400ef68011425b291f205c5&fileId=db3a30431400ef6801142750d93e0730&location=en.Products.RF.RF_Transistors_.Low_Noise_Si_Transistors_up_to_5_GHz_.DATASHEET.bfp540fesd.pdf; ComponentLink3Description: Package Specification; ComponentLink3URL: http://www.infineon.com/dgdl/TSFP-4-1%2C-2-Package_Overview.pdf?folderId=db3a30431936bc4b011953b7d203683d&fileId=db3a30431936bc4b011953c249663734
footprint INF-TSFP-4-1_V (SOP-Flat, 4 Leads, Body 0.8x1.4 mm, Pitch 1 mm)
pins: 1 B, 2 E, 3 C, 4 E

## BFP620
designator Q?
NPN Silicon Germanium RF Transistor, 2.3 V VCEO, 80 mA IC, 21.5 dB Gmax, SOT343, Green; Manufacturer: Infineon; PartNumber: BFP620; Gmax (typ): 21.5 dB; Green: yes; Group: Ultra low noise SiGe; IC (max): 80 mA; NFmin (typ): 0.7 dB; Ptot (max): 185 mW; VCEO (max): 2.3 V; DatasheetVersion: Sep-2010; PackageReference: SOT343; PackageDescription: 4-Pin Small Outline Transistor Package, 1.25 x 2 mm Body; Supplier 1: Mouser; Supplier Part Number 1: N/A; Halogen-free: yes; Mounting Technology: Surface Mount; ComponentLink1Description: Manufacturer URL; ComponentLink1URL: http://www.infineon.com/; ComponentLink2Description: Datasheet; ComponentLink2URL: http://www.infineon.com/dgdl/bfp620.pdf?folderId=db3a30431400ef68011425b291f205c5&fileId=db3a30431400ef680114274deb27072a&location=en.Products.RF.RF_Transistors_.Ultra_Low_Noise_SiGe_C_Transistors_for_use_up_to_12_GHz.DATASHEET.bfp620.pdf; ComponentLink3Description: Package Specification; ComponentLink3URL: http://www.infineon.com/dgdl/SOT343-Package_Overview.pdf?folderId=db3a30431936bc4b0119535155343cba&fileId=db3a30431936bc4b0119535a9f393cd3
footprint INF-SOT343_V (SOT343, 4-Leads, Body 2x1.25 mm)
pins: 1 B, 2 E, 3 C, 4 E

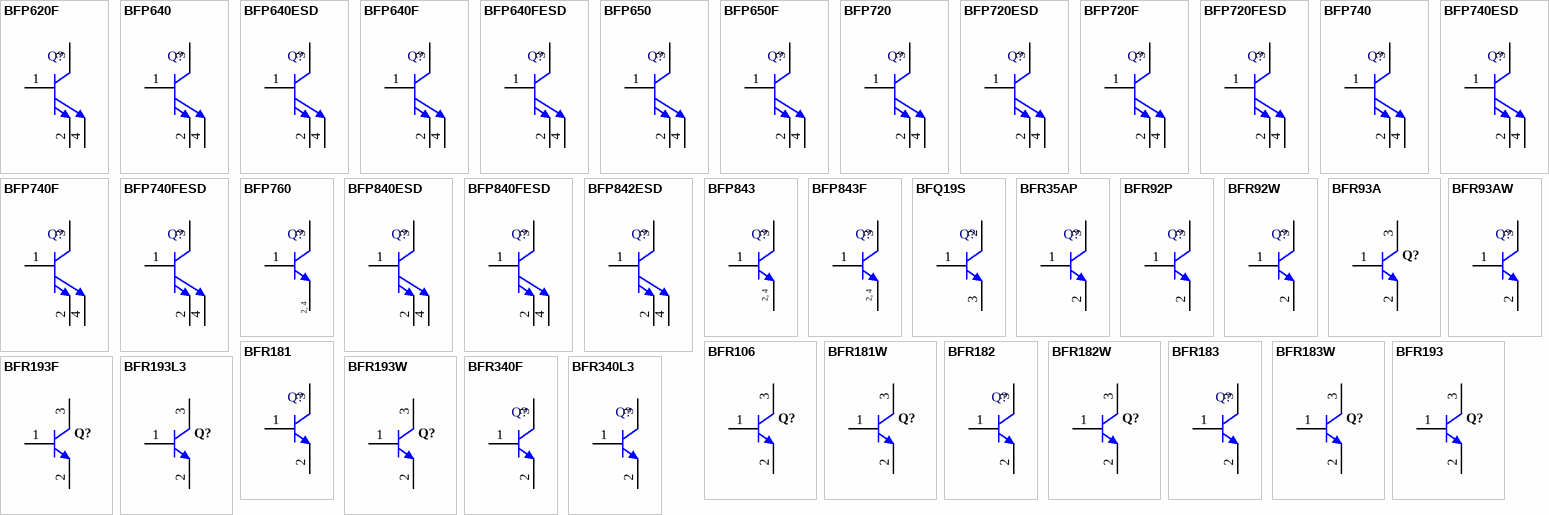
[diagram p4: symbols BFP620F to BFR340L3]

## BFP620F
designator Q?
NPN Silicon Germanium RF Transistor, 2.3 V VCEO, 80 mA IC, 21 dB Gmax, TSFP-4-1, Green; Manufacturer: Infineon; PartNumber: BFP620F; Gmax (typ): 21 dB; Green: yes; Group: Ultra low noise SiGe; IC (max): 80 mA; NFmin (typ): 0.7 dB; Ptot (max): 185mW; VCEO (max): 2.3 V; DatasheetVersion: Apr-2007; PackageReference: TSFP-4-1; PackageDescription: 4-Pin Thin Small Flat Package, 0.8 x 1.4 mm Body, 0.5 mm Pitch; Supplier 1: Mouser; Supplier Part Number 1: N/A; Halogen-free: yes; Mounting Technology: Surface Mount; ComponentLink1Description: Manufacturer URL; ComponentLink1URL: http://www.infineon.com/; ComponentLink2Description: Datasheet; ComponentLink2URL: http://www.infineon.com/dgdl/bfp620f.pdf?folderId=db3a30431400ef68011425b291f205c5&fileId=db3a30431400ef680114274ce64f0729&location=en.Products.RF.RF_Transistors_.Ultra_Low_Noise_SiGe_C_Transistors_for_use_up_to_12_GHz.DATASHEET.bfp620f.pdf; ComponentLink3Description: Package Specification; ComponentLink3URL: http://www.infineon.com/dgdl/TSFP-4-1%2C-2-Package_Overview.pdf?folderId=db3a30431936bc4b011953b7d203683d&fileId=db3a30431936bc4b011953c249663734
footprint INF-TSFP-4-1_V (SOP-Flat, Body 0.8x1.4 mm, Pitch 1 mm)
pins: 1 B, 2 E, 3 C, 4 E

## BFP640
designator Q?
NPN Silicon Germanium RF Transistor, 4 V VCEO, 50 mA IC, 24 dB Gmax, SOT343, Green; Manufacturer: Infineon; PartNumber: BFP640; Gmax (typ): 24 dB; Green: yes; Group: Ultra low noise SiGe; IC (max): 50 mA; NFmin (typ): 0.65 dB; Ptot (max): 200.0 mW; VCEO (max): 4 V; DatasheetVersion: ########; PackageReference: SOT343; PackageDescription: 4-Pin Small Outline Transistor Package, 1.25 x 2 mm Body; Supplier 1: Mouser; Supplier Part Number 1: N/A; Halogen-free: yes; Mounting Technology: Surface Mount; ComponentLink1Description: Manufacturer URL; ComponentLink1URL: http://www.infineon.com/; ComponentLink2Description: Datasheet; ComponentLink2URL: http://www.infineon.com/dgdl/bfp640.pdf?folderId=db3a30431400ef68011425b291f205c5&fileId=db3a30431400ef6801142747c1a1071d&location=en.Products.RF.RF_Transistors_.Ultra_Low_Noise_SiGe_C_Transistors_for_use_up_to_12_GHz.DATASHEET.bfp640.pdf; ComponentLink3Description: Package Specification; ComponentLink3URL: http://www.infineon.com/dgdl/SOT343-Package_Overview.pdf?folderId=db3a30431936bc4b0119535155343cba&fileId=db3a30431936bc4b0119535a9f393cd3
footprint INF-SOT343_V (SOT343, 4-Leads, Body 2x1.25 mm)
pins: 1 B, 2 E, 3 C, 4 E

## BFP640ESD
designator Q?
Robust High Performance Low Noise Bipolar RF Transistor, 4.1 V VCEO, 50 mA IC, 25 dB Gmax, SOT343, Green; Manufacturer: Infineon; PartNumber: BFP640ESD; Gmax (typ): 25 dB; Green: yes; Group: Robust ultra low noise SiGe; IC (max): 50 mA; NFmin (typ): 0.65 dB; Ptot (max): 200 mW; VCEO (max): 4.1 V; DatasheetVersion: Rev. 1.0; PackageReference: SOT343; PackageDescription: 4-Pin Small Outline Transistor Package, 1.25 x 2 mm Body; Halogen-free: yes; Mounting Technology: Surface Mount; ComponentLink1Description: Manufacturer URL; ComponentLink1URL: http://www.infineon.com/; ComponentLink2Description: Datasheet; ComponentLink2URL: http://www.infineon.com/dgdl/bfp640esd.pdf?folderId=db3a30431f848401011fcbf2ab4c04c4&fileId=db3a30432968c552012991de121f54ac&location=en.Products.RF.RF_Transistors_.Ultra_Low_Noise_SiGe_C_Transistors_for_use_up_to_12_GHz.DATASHEET.bfp640esd.pdf; ComponentLink3Description: Package Specification; ComponentLink3URL: http://www.infineon.com/dgdl/SOT343-Package_Overview.pdf?folderId=db3a30431936bc4b0119535155343cba&fileId=db3a30431936bc4b0119535a9f393cd3
footprint INF-SOT343_V (SOT343, 4-Leads, Body 2x1.25 mm)
pins: 1 B, 2 E, 3 C, 4 E